# EAGLE library part PMOD_GPIO (library m_module)
Pmod Interface Type 1: GPIO A generic PMOD GPIO header. Based on data from Digilent PMOD Interface Specification <https://www.digilentinc.com/Pmods/Digilent-Pmod_%20Interface_Specification.pdf>
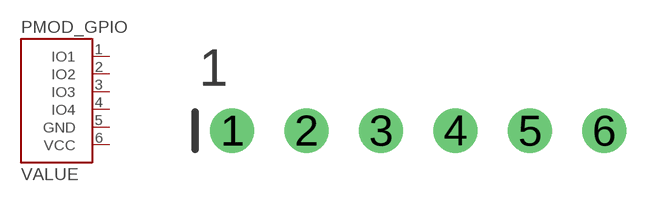
[diagram p10: symbol with the pads of PMOD-PERIPHERAL-6PIN; footprint PMOD-PERIPHERAL-6PIN]

Designator prefix PMOD_GPIO

## PMOD_GPIO-PERIPHERAL  [PMOD-PERIPHERAL-6PIN]
1  IO1  pas
2  IO2  pas
3  IO3  pas
4  IO4  pas
5  GND  pas
6  VCC  pas

## Footprint PMOD-PERIPHERAL-6PIN (pad centres in mm)
PMOD Peripheral, 6-Pin A single-row, 0.1" pitch PMOD peripheral header. Based on data from Digilent PMOD specification <https://www.digilentinc.com/Pmods/Digilent-Pmod_%20Interface_Specification.pdf>. Added 2019-01-28
drill 1: 1 -6.35,0; 2 -3.81,0; 3 -1.27,0; 4 1.27,0; 5 3.81,0; 6 6.35,0